# EAGLE library part MCP2515 (library Semiconductors > Integrated Circuits - ICs > Interface ICs > CAN Interface IC)
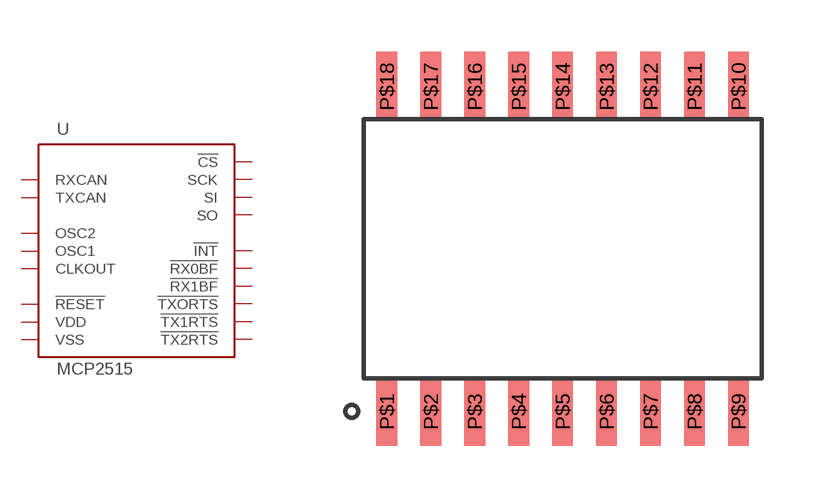
[diagram p0: symbol with the pads of SOIC-18_300MIL; footprint SOIC-18_300MIL]

Designator prefix U

## MCP2515  [SOIC-18_300MIL]
P$1  TXCAN
P$2  RXCAN
P$3  CLKOUT
P$4  !TXORTS!
P$5  !TX1RTS!
P$6  !TX2RTS!
P$7  OSC2
P$8  OSC1
P$9  VSS
P$10  !RX1BF!
P$11  !RX0BF!
P$12  !INT!
P$13  SCK
P$14  SI
P$15  SO
P$16  !CS!
P$17  !RESET!
P$18  VDD

## Footprint SOIC-18_300MIL (pad centres in mm)
smd 0.6 x 2: P$1 -5.08,-4.7; P$2 -3.81,-4.7; P$3 -2.54,-4.7; P$4 -1.27,-4.7; P$5 0,-4.7; P$6 1.27,-4.7; P$7 2.54,-4.7; P$8 3.81,-4.7; P$9 5.08,-4.7; P$10 5.08,4.7; P$11 3.81,4.7; P$12 2.54,4.7; P$13 1.27,4.7; P$14 0,4.7; P$15 -1.27,4.7; P$16 -2.54,4.7; P$17 -3.81,4.7; P$18 -5.08,4.7